# Altium schematic symbol library Components.SchLib: 6 symbols
Pins are listed as number, name and electrical type; pins without a type are passive.

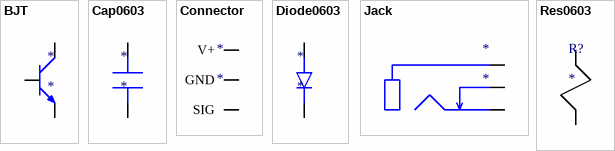
[diagram p0: symbols BJT to Res0603]

## BJT
designator *
footprint BJT
pins: B, C, E

## Cap0603
designator *
footprint Res0603
pins: 1, 2

## Connector
designator *
footprint Header1x3
pins: GND, SIG, V+

## Diode0603
designator *
footprint LED0603
pins: A, K

## Jack
designator *
pins: S, SW, T

## Res0603
designator R?
footprint Res0603
pins: 1, 2